# Altium footprint library Mach_congtac_thong_minh_Kien.PcbLib: 35 footprints (part 1 of 3)
Each footprint in its own frame and in the unit in brackets; x right, y up, seen from the top. Pads: shape width x height; smd on the part's side, far side on the other; paste and mask are expansions set on the pad; w line width, h text height; cw(c..) or ccw(c..) is an arc to the next point about the centre after c.
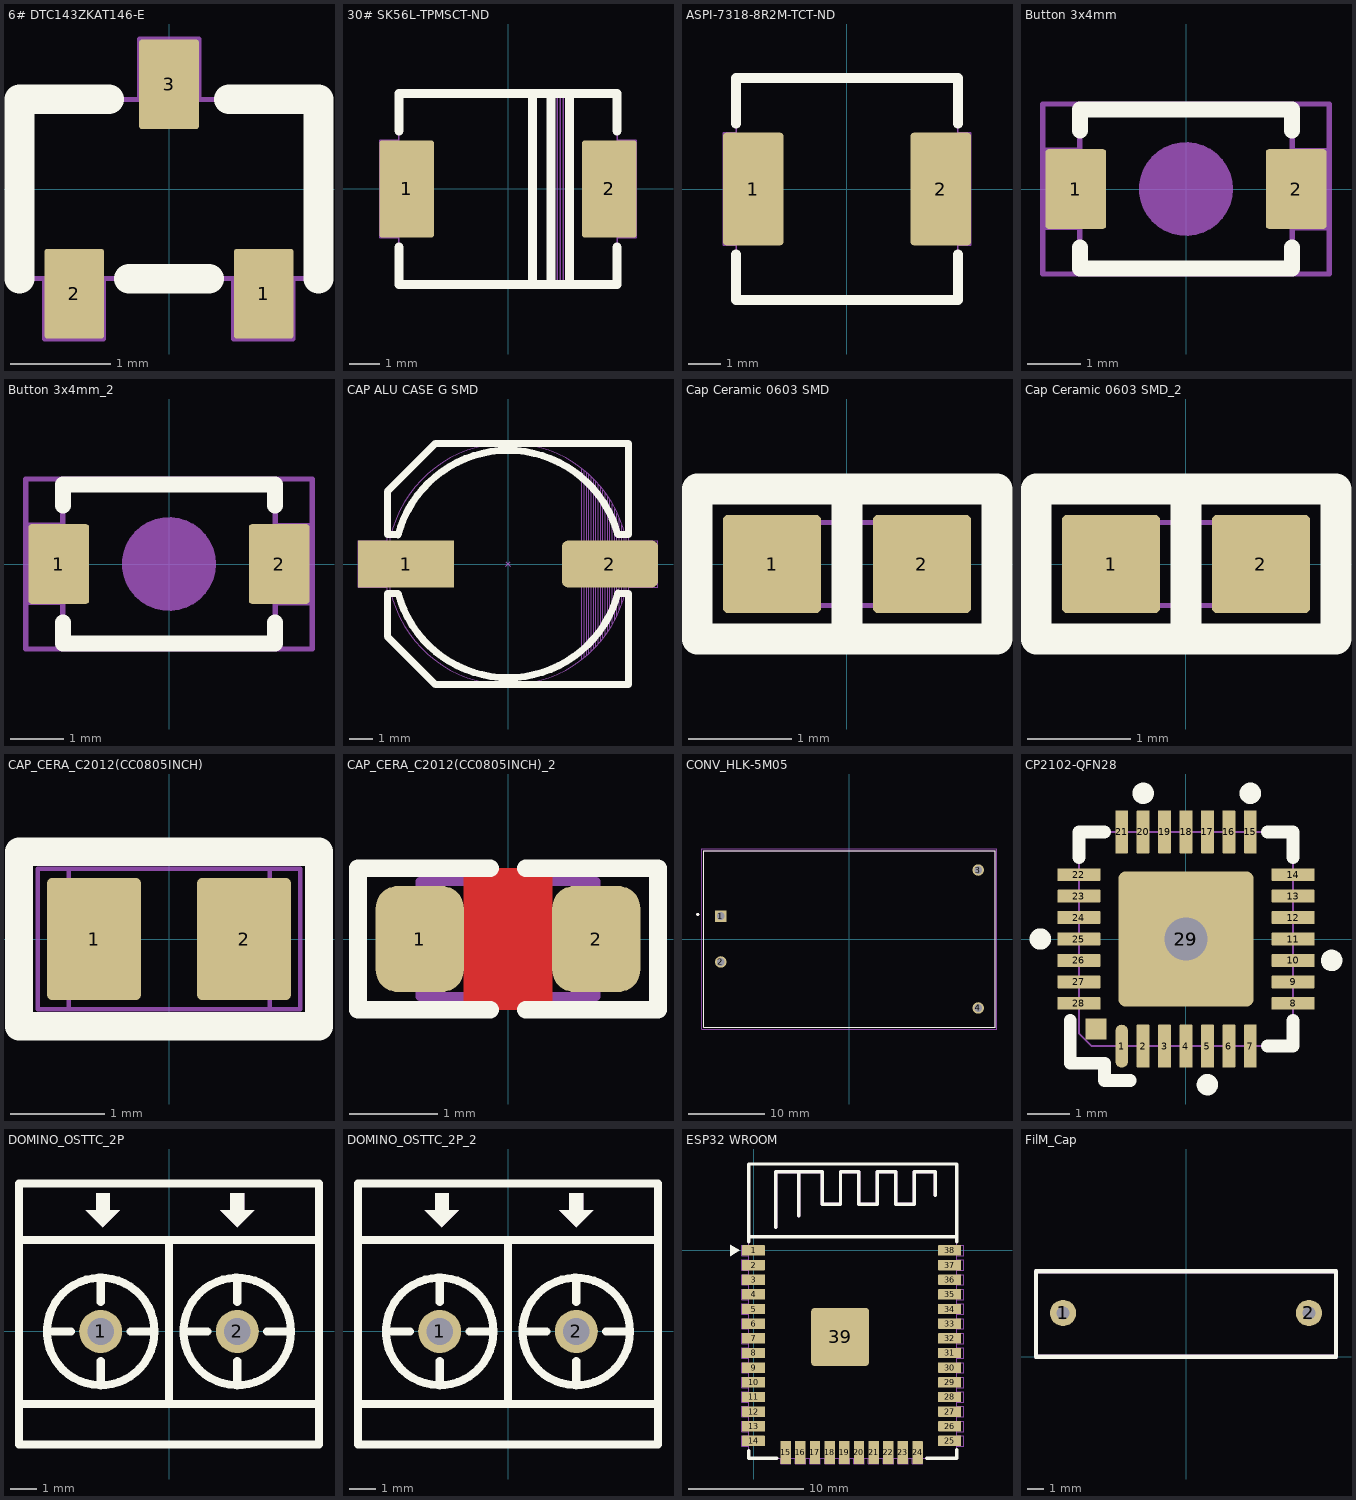
[diagram p0: the footprints below, top view; thin cyan lines are the x and y axes]

## 6# DTC143ZKAT146-E [mm] "SOT-346 SMT3"
height 1
pads (3):
  rrect10% 0.6x0.9 smd mask+0.05: 1(0.95,-1.05) 2(-0.95,-1.05) 3(0,1.05)
Top Overlay:
  lines w0.3: -1.5,-0.9 -1.5,0.9 -0.6,0.9 ; -0.4,-0.9 0.4,-0.9 ; 0.6,0.9 1.5,0.9 1.5,-0.9
Mechanical 2:
  lines w0.05: -1.251,-0.9 -1.251,-1.504 -0.656,-1.504 -0.656,-0.899 ; -0.294,0.899 -0.294,1.504 0.301,1.504 0.301,0.9 ; 0.649,-0.9 0.649,-1.504 1.244,-1.504 1.244,-0.899 ; -1.5,-0.9 1.5,-0.9 1.5,0.9 -1.5,0.9 -1.5,-0.9
  text "E" at -1.1,-0.7 h0.75
  text "B" at 0.9,-0.8 h0.75
  text "C" at -0.15,0.4 h0.75
3D body "User Library-User Library-SOT-346T.STEP": height 1.2, standoff 0, extent -1.45,-1.4 1.45,1.4

## 30# SK56L-TPMSCT-ND [mil] "SK56L-TPMSCT-ND(DO-214AB)"
height 103.15
pads (2):
  rrect10% 70x125 smd mask+1.97: 1(-130,0) 2(130,0)
Top Overlay:
  lines w11.81: -139.96,-74.8 -139.96,-122.44 139.96,-122.44 139.96,-74.8 ; -139.96,74.8 -139.96,122.44 139.96,122.44 139.96,74.8 ; 31.5,122.44 31.5,-122.44 39.37,-122.44 ; 55.12,-122.44 55.12,122.44 ; 78.74,-122.44 78.74,122.44
Mechanical 2:
  lines w1.97: -140.28,62.4 -164.8,62.4 -164.8,-62.24 -140.04,-62.24 ; 59.05,-122.44 59.05,122.44 ; 62.99,-122.44 62.99,122.44 ; 66.93,-122.44 66.93,122.44 ; 70.87,-122.44 70.87,122.44 ; 140.04,62.24 164.8,62.24 164.8,-62.4 140.28,-62.4 ; -139.96,-122.44 139.96,-122.44 139.96,122.44 -139.96,122.44 -139.96,-122.44
  text "A" at -122.05,-27.56 h29.53
  text "K" at 98.43,-27.56 h29.53
3D body "User Library-DO-214AB SMC.step": height 86.71, standoff -3.94, extent -156.49,-116.14 156.5,116.14

## ASPI-7318-8R2M-TCT-ND [mm] "8.2µH Shielded Wirewound Inductor 4A 68 mOhm Max Nonstandard"
height 3
pads (2):
  rrect10% 1.85x3.45 smd mask+0.05: 1(-2.875,0) 2(2.875,0)
Top Overlay:
  lines w0.3: -3.4,-2 -3.4,-3.4 3.4,-3.4 3.4,-2 ; -3.4,2 -3.4,3.4 3.4,3.4 3.4,2
Mechanical 2:
  lines w0.05: -3.404,1.723 -3.41,1.723 -3.796,1.723 -3.796,-1.727 -3.402,-1.727 -3.402,-1.723 ; 3.402,-1.723 3.402,-1.727 3.794,-1.727 3.794,1.723 3.41,1.723 3.404,1.723 ; -3.4,-3.4 -3.4,3.4 3.4,3.4 3.4,-3.4 -3.4,-3.4
3D body: height 2.54, standoff 0, extent -3.402,-3.4 3.402,3.4
3D body: height 3, standoff 0, extent -3.4,-3.4 3.4,3.4
3D body: height 0.5, standoff 0, extent -3.654,-1.273 -2.468,1.26
3D body: height 0.5, standoff 0, extent 2.467,-1.26 3.653,1.272

## Button 3x4mm [mm] "SMD 3x4mm"
pads (2):
  rrect10% 1.143x1.5 smd mask+0.05: 1(-2.075,0) 2(2.075,0)
Top Overlay:
  lines w0.3: -2,-1.1 -2,-1.5 2,-1.5 2,-1.1 ; -2,1.1 -2,1.5 2,1.5 2,1.1
Mechanical 2:
  circle w0.05: c0,0 r0.861
  region: -0.085,-0.861 -0.251,-0.828 -0.408,-0.763 -0.549,-0.669 -0.669,-0.549 -0.763,-0.408 -0.828,-0.251 -0.861,-0.085 -0.861,0 -0.861,0.085 -0.828,0.251 -0.763,0.408 -0.669,0.549 -0.549,0.669 -0.408,0.763 -0.251,0.828 -0.085,0.861 0,0.861 0.085,0.861 0.251,0.828 0.408,0.763 0.549,0.669 0.669,0.549 0.763,0.408 0.828,0.251 0.861,0.085 0.861,-0.085 0.828,-0.251 0.763,-0.408 0.669,-0.549 0.549,-0.669 0.408,-0.763 0.251,-0.828 0.085,-0.861
  lines w0.05: -2.007,0.752 -2.64,0.752 -2.64,-0.744 -2,-0.744 ; 2,0.744 2.64,0.744 2.64,-0.752 2.007,-0.752 ; -2,-1.5 -2,1.5 2,1.5 2,-1.5 -2,-1.5
  text ".Designator" at -0.1,1.1 h0.75
Mechanical 13:
  lines w0.1: -2,-1.5 2,-1.5 2,1.5 -2,1.5 -2,-1.5
Mechanical 15:
  lines w0.1: -0.5,0 0.5,0 ; 0,-0.5 0,0.5 ; -2.7,-1.6 2.7,-1.6 2.7,1.6 -2.7,1.6 -2.7,-1.6
3D body "SMT Tactile Switch PTS-820.STEP": height 2.05, standoff -0.5, extent -2.25,-1.55 2.25,1.55

## Button 3x4mm_2 [mm]
pads (2):
  rrect10% 1.143x1.5 smd mask+0.05: 1(-2.075,0) 2(2.075,0)
Top Overlay:
  lines w0.3: -2,-1.1 -2,-1.5 2,-1.5 2,-1.1 ; -2,1.1 -2,1.5 2,1.5 2,1.1
Mechanical 2:
  circle w0.05: c0,0 r0.861
  region: -0.085,-0.861 -0.251,-0.828 -0.408,-0.763 -0.549,-0.669 -0.669,-0.549 -0.763,-0.408 -0.828,-0.251 -0.861,-0.085 -0.861,0 -0.861,0.085 -0.828,0.251 -0.763,0.408 -0.669,0.549 -0.549,0.669 -0.408,0.763 -0.251,0.828 -0.085,0.861 0,0.861 0.085,0.861 0.251,0.828 0.408,0.763 0.549,0.669 0.669,0.549 0.763,0.408 0.828,0.251 0.861,0.085 0.861,-0.085 0.828,-0.251 0.763,-0.408 0.669,-0.549 0.549,-0.669 0.408,-0.763 0.251,-0.828 0.085,-0.861
  lines w0.05: -2.007,0.752 -2.64,0.752 -2.64,-0.744 -2,-0.744 ; 2,0.744 2.64,0.744 2.64,-0.752 2.007,-0.752 ; -2,-1.5 2,-1.5 2,1.5 -2,1.5 -2,-1.5
  text ".Designator" at -0.1,1.1 h0.75
Mechanical 13:
  lines w0.1: -2,-1.5 -2,1.5 2,1.5 2,-1.5 -2,-1.5
Mechanical 15:
  lines w0.1: -0.5,0 0.5,0 ; 0,-0.5 0,0.5 ; -2.7,-1.6 -2.7,1.6 2.7,1.6 2.7,-1.6 -2.7,-1.6
3D body "SMT Tactile Switch PTS-820.STEP": height 2.05, standoff -0.5, extent -2.25,-1.55 2.25,1.55

## CAP ALU CASE G SMD [mm]
pads (2):
  rect 4.1x2 smd mask+0.05: 1(-4.35,0)
  rrect25% 4.1x2 smd mask+0.05: 2(4.35,0)
Top Overlay:
  lines w0.3: -4.688,-1.25 -5.15,-1.25 -5.15,-3.1 -3.1,-5.15 5.15,-5.15 5.15,-1.25 4.688,-1.25 ; -4.688,1.25 -5.15,1.25 -5.15,3.1 -3.1,5.15 5.15,5.15 5.15,1.25 4.688,1.25 ; -4.687,1.248 cw(c0,0) 4.685,1.252 ; -4.685,-1.252 ccw(c0,0) 4.687,-1.248
Mechanical 2:
  circle w0.05: c0,0 r5.15
  lines w0.05: -5.95,0 -5.65,0 ; -5.8,-0.15 -5.8,0.15 ; -5.15,-1 -6.4,-1 -6.4,1 -5.15,1 ; -0.1,-0.1 0.1,0.1 ; -0.1,0.1 0.1,-0.1 ; 3.15,-4.05 3.15,4.05 ; 3.25,-3.95 3.25,3.95 ; 3.35,-3.9 3.35,3.9 ; 3.45,-3.8 3.45,3.8 ; 3.55,-3.7 3.55,3.7 ; 3.65,-3.6 3.65,3.6 ; 3.75,-3.5 3.75,3.5 ; 3.85,-3.4 3.85,3.4 ; 3.95,-3.3 3.95,3.3 ; 4.05,-3.15 4.05,3.15 ; 4.15,-3.05 4.15,3.05 ; 4.25,-2.9 4.25,2.9 ; 4.35,-2.7 4.35,2.75 ; 4.45,-2.55 4.45,2.55 ; 4.55,-2.4 4.55,2.35 ; 4.65,-2.2 4.65,2.15 ; 4.75,-1.95 4.75,1.95 ; 4.85,-1.7 4.85,1.65 ; 4.95,-1.35 4.95,1.35 ; 5.05,-0.9 5.05,0.85 ; 5.15,-1 6.4,-1 6.4,1 5.15,1 ; -5.15,-3.1 -3.1,-5.15 5.15,-5.15 5.15,5.15 -3.1,5.15 -5.15,3.1 -5.15,-3.1
  text ".Designator" at 0,0.1 h0.75
3D body "User Library-ALU-G.STEP": height 10.2, standoff 0, extent -5.72,-5.149 5.88,5.151
3D body "User Library-ALU-G.STEP": height 10.2, standoff 0, extent -5.8,-5.15 5.8,5.15

## Cap Ceramic 0603 SMD [mm] "Reflow Soldering"
pads (2):
  rrect10% 0.95x0.95 smd mask+0.05: 1(-0.725,0) 2(0.725,0)
Top Overlay:
  lines w0.3: -1.45,0.725 -1.45,-0.725 1.435,-0.725 ; -1.435,0.725 1.435,0.725 ; 0,-0.725 0,0.725 ; 1.45,-0.725 1.45,0.725
Mechanical 2:
  lines w0.05: -0.1,-0.1 0.1,0.1 ; -0.1,0.1 0.1,-0.1 ; -0.8,-0.4 -0.8,0.4 0.8,0.4 0.8,-0.4 -0.8,-0.4
  text ".Designator" at 0,0 h0.75
3D body "User Library-SMD CAPACITOR0603.STEP": height 0.85, standoff 0.05, extent -0.8,-0.4 0.8,0.4

## Cap Ceramic 0603 SMD_2 [mm]
pads (2):
  rrect10% 0.95x0.95 smd mask+0.05: 1(-0.725,0) 2(0.725,0)
Top Overlay:
  lines w0.3: -1.45,0.725 -1.45,-0.725 1.435,-0.725 ; -1.435,0.725 1.435,0.725 ; 0,-0.725 0,0.725 ; 1.45,-0.725 1.45,0.725
Mechanical 2:
  lines w0.05: -0.1,-0.1 0.1,0.1 ; -0.1,0.1 0.1,-0.1 ; -0.8,-0.4 -0.8,0.4 0.8,0.4 0.8,-0.4 -0.8,-0.4
  text ".Designator" at 0,0 h0.75
3D body "User Library-SMD CAPACITOR0603.STEP": height 0.85, standoff 0.05, extent -0.8,-0.4 0.8,0.4

## CAP_CERA_C2012(CC0805INCH) [mm] "Chip Capacitor, 2-Leads, Body 2.0x1.3mm, IPC Medium Density"
height 1.45
pads (2):
  rrect10% 1x1.3 smd mask+0.05: 1(-0.8,0) 2(0.8,0)
Top Overlay:
  lines w0.3: -1.6,-0.93 -1.6,0.93 1.6,0.93 1.6,-0.93 -1.6,-0.93
Mechanical 2:
  lines w0.05: -1.07,-0.74 -1.07,0.75 ; 1.075,-0.74 1.075,0.75 ; -1.4,-0.75 -1.4,0.75 1.4,0.75 1.4,-0.75 -1.4,-0.75
3D body "User Library-cap_0805_lowprofile.step": height 0.95, standoff 0, extent -1,-0.6 1,0.6

## CAP_CERA_C2012(CC0805INCH)_2 [mm]
pads (2):
  rrect50% 1x1.2 smd mask+0.075: 1(-1,0) 2(1,0)
Top Layer:
  pour cut-out: -0.5,0.8 0.5,0.8 0.5,-0.8 -0.5,-0.8
Top Overlay:
  lines w0.2: -0.2,-0.8 -1.7,-0.8 -1.7,0.8 -0.2,0.8 ; 0.2,-0.8 1.7,-0.8 1.7,0.8 0.2,0.8
Mechanical 13:
  lines w0.1: -1,-0.65 1,-0.65 1,0.65 -1,0.65 -1,-0.65
3D body "c0805_Cap.step": height 0.8, standoff 0, extent -1.4,-0.625 1.4,0.625

## CONV_HLK-5M05 [mm]
pads (4):
  rect 1.5x1.5 hole 1: 1(-16.8,3)
  round 1.5 hole 1: 2(-16.8,-3) 3(16.8,9) 4(16.8,-9)
Top Overlay:
  circle w0.2: c-19.8,3.2 r0.1
  lines w0.127: -19,-11.5 19,-11.5 19,11.5 -19,11.5 -19,-11.5
Mechanical 13:
  circle w0.2: c-19.8,3.2 r0.1
  lines w0.127: -19,-11.5 -19,11.5 19,11.5 19,-11.5 -19,-11.5
Mechanical 15:
  lines w0.05: -19.25,-11.75 -19.25,11.75 19.25,11.75 19.25,-11.75 -19.25,-11.75
3D body "HLK-5M05--3DModel-STEP-56544.STEP": height 18, standoff -5, extent -19,-11.5 19,11.5

## CP2102-QFN28 [mm] "QFN28 5x5 pitch 0.5"
height 1
pads (31):
  oval 0.3x1 smd mask+0.05: 1(-1.5,-2.5)
  rrect10% 0.3x1 smd mask+0.05: 2(-1,-2.5) 3(-0.5,-2.5) 4(0,-2.5) 5(0.5,-2.5) 6(1,-2.5) 7(1.5,-2.5) 15(1.5,2.5) 16(1,2.5) 17(0.5,2.5) 18(0,2.5) 19(-0.5,2.5) 20(-1,2.5) 21(-1.5,2.5)
  rrect10% 1x0.3 smd mask+0.05: 8(2.5,-1.5) 9(2.5,-1) 10(2.5,-0.5) 11(2.5,0) 12(2.5,0.5) 13(2.5,1) 14(2.5,1.5) 22(-2.5,1.5) 23(-2.5,1) 24(-2.5,0.5) 25(-2.5,0) 26(-2.5,-0.5) 27(-2.5,-1) 28(-2.5,-1.5)
  round 1.4 hole 1 mask+0.05: 29(0,0)
  rrect10% 3.15x3.15 smd mask+0.05: 29(0,0)
  rrect10% 0.5x0.5 smd mask+0.05: ""(-2.1,-2.1)
Top Overlay:
  circle w0.3: c-3.4,0 r0.1
  circle w0.3: c-1,3.4 r0.1
  circle w0.3: c1.5,3.4 r0.1
  circle w0.3: c3.4,-0.5 r0.1
  circle w0.3: c0.5,-3.4 r0.1
  lines w0.3: -2.7,-1.9 -2.7,-2.9 -1.9,-2.9 -1.9,-3.3 -1.3,-3.3 ; -2.5,1.9 -2.5,2.5 -1.9,2.5 ; 1.9,-2.5 2.5,-2.5 2.5,-1.9 ; 1.9,2.5 2.5,2.5 2.5,1.9
Mechanical 2:
  lines w0.05: -2.5,-2.2 -2.2,-2.5 2.3,-2.5 2.5,-2.3 2.5,2.3 2.3,2.5 -2.3,2.5 -2.5,2.3 -2.5,-2.2
  text "1" at -1.5,-2.3 h0.75
  text "7" at 1.3,-2.3 h0.75
  text "8" at 2.2,-1.7 h0.75
  text "14" at 2.1,0.6 h0.75
  text "15" at 1,1.7 h0.75
  text "21" at -1.7,1.7 h0.75
  text "22" at -1.6,0.7 h0.75
  text "28" at -1.7,-1.8 h0.75
3D body "User Library-QFN28-0_5.STEP": height 1, standoff 0, extent -2.5,-2.5 2.5,2.5

## DOMINO_OSTTC_2P [mm] "15A PIN TO PIN 5.08MM ED2609-ND"
height 0.6
pads (2):
  round 1.6 hole 1 mask+0.05: 1(-2.54,0) 2(2.54,0)
Top Overlay:
  circle w0.3: c2.54,0 r2
  circle w0.3: c-2.54,0 r2
  region: -2.46,3.871 -3.095,4.506 -2.714,4.506 -2.714,5.141 -2.206,5.141 -2.206,4.506 -1.825,4.506
  region: 2.54,3.871 1.905,4.506 2.286,4.506 2.286,5.141 2.794,5.141 2.794,4.506 3.175,4.506
  lines w0.3: -5.58,-4.2 -5.58,5.5 ; -5.5,-4.2 5.5,-4.2 ; -5.5,-2.7 5.5,-2.7 ; -5.5,3.4 5.5,3.4 ; -5.5,5.5 5.5,5.5 ; -4.54,0 -3.64,0 ; -2.54,-2 -2.54,-1.1 ; -2.54,1.1 -2.54,2 -2.5,2 ; -1.44,0 -0.54,0 ; 0,-2.7 0,3.4 ; 0.54,0 1.44,0 ; 2.54,-2 2.54,-1.1 ; 2.54,1.1 2.54,2 ; 3.64,0 4.54,0 ; 5.58,-4.2 5.58,5.5
Mechanical 2:
  circle w0.05: c-2.54,0 r2
  circle w0.05: c2.54,0 r2
  region: -2.46,3.871 -3.095,4.506 -2.714,4.506 -2.714,5.141 -2.206,5.141 -2.206,4.506 -1.825,4.506
  region: 2.54,3.871 1.905,4.506 2.286,4.506 2.286,5.141 2.794,5.141 2.794,4.506 3.175,4.506
  lines w0.05: -5.5,-2.7 5.5,-2.7 ; -5.5,3.4 5.5,3.4 ; 0,-2.7 0,3.4 ; -5.5,-4.2 5.5,-4.2 5.5,5.5 -5.5,5.5 -5.5,-4.2
  text "1" at -2.74,-0.6 h0.75
  text "2" at 2.14,-0.6 h0.75
3D body "STB01.step": height 12.5, standoff -4.4, extent -5.42,-3.753 0.26,5.247
3D body "STB01.step": height 12.5, standoff -4.4, extent -0.34,-3.753 5.34,5.247

## DOMINO_OSTTC_2P_2 [mm]
pads (2):
  round 1.6 hole 1 mask+0.05: 1(-2.54,0) 2(2.54,0)
Top Overlay:
  circle w0.3: c-2.54,0 r2
  circle w0.3: c2.54,0 r2
  region: 2.54,3.871 1.905,4.506 2.286,4.506 2.286,5.141 2.794,5.141 2.794,4.506 3.175,4.506
  region: -2.46,3.871 -3.095,4.506 -2.714,4.506 -2.714,5.141 -2.206,5.141 -2.206,4.506 -1.825,4.506
  lines w0.3: -5.58,-4.2 -5.58,5.5 ; -5.5,-4.2 5.5,-4.2 ; -5.5,-2.7 5.5,-2.7 ; -5.5,3.4 5.5,3.4 ; -5.5,5.5 5.5,5.5 ; -4.54,0 -3.64,0 ; -2.54,-2 -2.54,-1.1 ; -2.54,1.1 -2.54,2 -2.5,2 ; -1.44,0 -0.54,0 ; 0,-2.7 0,3.4 ; 0.54,0 1.44,0 ; 2.54,-2 2.54,-1.1 ; 2.54,1.1 2.54,2 ; 3.64,0 4.54,0 ; 5.58,-4.2 5.58,5.5
Mechanical 2:
  circle w0.05: c2.54,0 r2
  circle w0.05: c-2.54,0 r2
  region: 2.54,3.871 1.905,4.506 2.286,4.506 2.286,5.141 2.794,5.141 2.794,4.506 3.175,4.506
  region: -2.46,3.871 -3.095,4.506 -2.714,4.506 -2.714,5.141 -2.206,5.141 -2.206,4.506 -1.825,4.506
  lines w0.05: -5.5,-2.7 5.5,-2.7 ; -5.5,3.4 5.5,3.4 ; 0,-2.7 0,3.4 ; -5.5,-4.2 -5.5,5.5 5.5,5.5 5.5,-4.2 -5.5,-4.2
  text "2" at 2.14,-0.6 h0.75
  text "1" at -2.74,-0.6 h0.75
3D body "STB01.step": height 12.5, standoff -4.4, extent -0.34,-3.753 5.34,5.247
3D body "STB01.step": height 12.5, standoff -4.4, extent -5.42,-3.753 0.26,5.247

## ESP32 WROOM [mm] "ESP32 WROOM"
pads (39):
  rrect10% 2x0.9 smd mask+0.05: 1(0,0) 2(0,-1.27) 3(0,-2.54) 4(0,-3.81) 5(0,-5.08) 6(0,-6.35) 7(0,-7.62) 8(0,-8.89) 9(0,-10.16) 10(0,-11.43) 11(0,-12.7) 12(0,-13.97) 13(0,-15.24) 14(0,-16.51) 25(17,-16.51) 26(17,-15.24) 27(17,-13.97) 28(17,-12.7) 29(17,-11.43) 30(17,-10.16) 31(17,-8.89) 32(17,-7.62) 33(17,-6.35) 34(17,-5.08) 35(17,-3.81) 36(17,-2.54) 37(17,-1.27) 38(17,0)
  rrect10% 0.9x2 smd mask+0.05: 15(2.785,-17.51) 16(4.055,-17.51) 17(5.325,-17.51) 18(6.595,-17.51) 19(7.865,-17.51) 20(9.135,-17.51) 21(10.405,-17.51) 22(11.675,-17.51) 23(12.945,-17.51) 24(14.215,-17.51)
  rrect10% 5x5 smd mask+0.05: 39(7.5,-7.5)
Top Overlay:
  region: -1.2,0 -2,0.5 -2,-0.5
  lines w0.3: -0.4,-17.355 -0.4,-18.015 2,-18.015 ; -0.4,0.745 -0.4,7.49 17.6,7.49 17.6,0.745 ; -0.4,1.19 17.6,1.19 ; 1.935,2 1.935,6.8 5.935,6.8 5.935,4 7.535,4 7.535,6.8 9.135,6.8 9.135,6.4 9.135,4 10.735,4 10.735,6.8 12.335,6.8 12.335,4 13.935,4 13.935,6.8 15.735,6.8 15.735,4.8 ; 3.935,3 3.935,6.8 ; 15,-18.015 17.6,-18.015 17.6,-17.255
Mechanical 2:
  drawing of 167 lines, arcs and shapes, not listed
  text "1" at 0.6,-0.055 h0.75
  text "14" at 0.6,-16.955 h0.75
  text "15" at 2.2,-17.555 h0.75
  text "24" at 13.6,-17.555 h0.75
  text "25" at 17.3,-17.155 h0.75
  text "38" at 17.3,-0.555 h0.75
3D body "esp-wroom-32.stp": height 3, standoff -0.04, extent -0.535,-18.015 17.535,7.525

## FilM_Cap [mm]
pads (2):
  round 1.6 hole 0.8: 1(-7.493,2.667) 2(7.493,2.667)
Top Overlay:
  lines w0.254: -9.144,0 9.144,0 9.144,5.207 -9.144,5.207 -9.144,0
Mechanical 15:
  lines w0.254: -9.144,0 -9.144,5.207 9.144,5.207 9.144,0 -9.144,0
3D body "r46ki310000m1k.stp": height 11.1, standoff -6, extent -9.15,0 9.15,5.205